# Altium footprint library MyLib.PcbLib: 4 footprints
Each footprint in its own frame and in the unit in brackets; x right, y up, seen from the top. Pads: shape width x height; smd on the part's side, far side on the other; paste and mask are expansions set on the pad; w line width, h text height; cw(c..) or ccw(c..) is an arc to the next point about the centre after c.
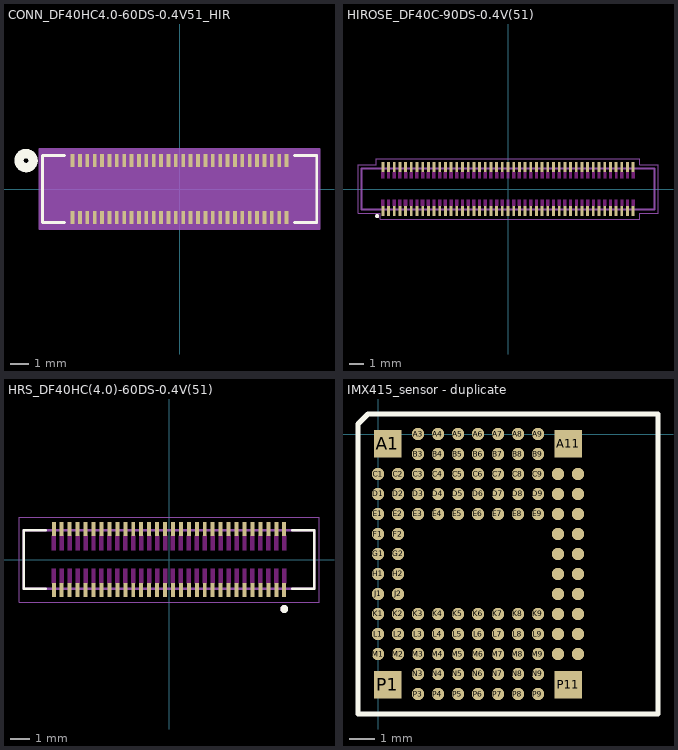
[diagram p0: the footprints below, top view; thin cyan lines are the x and y axes]

## CONN_DF40HC4.0-60DS-0.4V51_HIR [mm]
pads (60):
  rect 0.203x0.711 smd paste+0 mask+0: 1(-5.8,1.54) 2(-5.8,-1.54) 3(-5.4,1.54) 4(-5.4,-1.54) 5(-5,1.54) 6(-5,-1.54) 7(-4.6,1.54) 8(-4.6,-1.54) 9(-4.2,1.54) 10(-4.2,-1.54) 11(-3.8,1.54) 12(-3.8,-1.54) 13(-3.4,1.54) 14(-3.4,-1.54) 15(-3,1.54) 16(-3,-1.54) 17(-2.6,1.54) 18(-2.6,-1.54) 19(-2.2,1.54) 20(-2.2,-1.54) 21(-1.8,1.54) 22(-1.8,-1.54) 23(-1.4,1.54) 24(-1.4,-1.54) 25(-1,1.54) 26(-1,-1.54) 27(-0.6,1.54) 28(-0.6,-1.54) 29(-0.2,1.54) 30(-0.2,-1.54) 31(0.2,1.54) 32(0.2,-1.54) 33(0.6,1.54) 34(0.6,-1.54) 35(1,1.54) 36(1,-1.54) 37(1.4,1.54) 38(1.4,-1.54) 39(1.8,1.54) 40(1.8,-1.54) 41(2.2,1.54) 42(2.2,-1.54) 43(2.6,1.54) 44(2.6,-1.54) 45(3,1.54) 46(3,-1.54) 47(3.4,1.54) 48(3.4,-1.54) 49(3.8,1.54) 50(3.8,-1.54) 51(4.2,1.54) 52(4.2,-1.54) 53(4.6,1.54) 54(4.6,-1.54) 55(5,1.54) 56(5,-1.54) 57(5.4,1.54) 58(5.4,-1.54) 59(5.8,1.54) 60(5.8,-1.54)
Top Overlay:
  circle w0.508: c-8.319,1.54 r0.381
  lines w0.152: -6.234,-1.816 -7.429,-1.816 -7.429,1.816 -6.234,1.816 ; 6.234,-1.816 7.429,-1.816 7.429,1.816 6.234,1.816
  text ".Designator" at -3.492,-0.635 h1.27
Bottom Overlay:
  circle w0.508: c-8.319,1.54 r0.381
Mechanical 13:
  circle w0.508: c-5.8,1.54 r0.381
  lines w0.025: -7.302,-1.689 7.302,-1.689 7.302,1.689 -7.302,1.689 -7.302,-1.689
  text ".Designator" at -3.492,-0.635 h1.27
Mechanical 15:
  region: 7.556,2.15 -7.556,2.15 -7.556,-2.15 7.556,-2.15
  lines w0.152: -7.556,-2.15 -7.556,2.15 7.556,2.15 7.556,-2.15 -7.556,-2.15

## HIROSE_DF40C-90DS-0.4V(51) [mm]
pads (90):
  rect 0.2x0.7 smd paste+0 mask+0.102: 1(-8.8,-1.54) 2(-8.8,1.54) 3(-8.4,-1.54) 4(-8.4,1.54) 5(-8,-1.54) 6(-8,1.54) 7(-7.6,-1.54) 8(-7.6,1.54) 9(-7.2,-1.54) 10(-7.2,1.54) 11(-6.8,-1.54) 12(-6.8,1.54) 13(-6.4,-1.54) 14(-6.4,1.54) 15(-6,-1.54) 16(-6,1.54) 17(-5.6,-1.54) 18(-5.6,1.54) 19(-5.2,-1.54) 20(-5.2,1.54) 21(-4.8,-1.54) 22(-4.8,1.54) 23(-4.4,-1.54) 24(-4.4,1.54) 25(-4,-1.54) 26(-4,1.54) 27(-3.6,-1.54) 28(-3.6,1.54) 29(-3.2,-1.54) 30(-3.2,1.54) 31(-2.8,-1.54) 32(-2.8,1.54) 33(-2.4,-1.54) 34(-2.4,1.54) 35(-2,-1.54) 36(-2,1.54) 37(-1.6,-1.54) 38(-1.6,1.54) 39(-1.2,-1.54) 40(-1.2,1.54) 41(-0.8,-1.54) 42(-0.8,1.54) 43(-0.4,-1.54) 44(-0.4,1.54) 45(0,-1.54) 46(0,1.54) 47(0.4,-1.54) 48(0.4,1.54) 49(0.8,-1.54) 50(0.8,1.54) 51(1.2,-1.54) 52(1.2,1.54) 53(1.6,-1.54) 54(1.6,1.54) 55(2,-1.54) 56(2,1.54) 57(2.4,-1.54) 58(2.4,1.54) 59(2.8,-1.54) 60(2.8,1.54) 61(3.2,-1.54) 62(3.2,1.54) 63(3.6,-1.54) 64(3.6,1.54) 65(4,-1.54) 66(4,1.54) 67(4.4,-1.54) 68(4.4,1.54) 69(4.8,-1.54) 70(4.8,1.54) 71(5.2,-1.54) 72(5.2,1.54) 73(5.6,-1.54) 74(5.6,1.54) 75(6,-1.54) 76(6,1.54) 77(6.4,-1.54) 78(6.4,1.54) 79(6.8,-1.54) 80(6.8,1.54) 81(7.2,-1.54) 82(7.2,1.54) 83(7.6,-1.54) 84(7.6,1.54) 85(8,-1.54) 86(8,1.54) 87(8.4,-1.54) 88(8.4,1.54) 89(8.8,-1.54) 90(8.8,1.54)
Top Overlay:
  circle w0.14: c-9.2,-1.9 r0.07
Keep-Out Layer:
  drawing of 90 lines, arcs and shapes, not listed
Mechanical 13:
  circle w0.14: c-9.2,-1.9 r0.07
  lines w0.127: -10.3,-1.44 10.3,-1.44 10.3,1.44 -10.3,1.44 -10.3,-1.44
Mechanical 15:
  lines w0.05: -10.55,-1.69 -10.55,1.69 -9.25,1.69 -9.25,2.14 9.25,2.14 9.25,1.69 10.55,1.69 10.55,-1.69 9.25,-1.69 9.25,-2.14 -9,-2.14 -9,-1.69 -10.55,-1.69
3D body "step_temp.STEP": height 1.4, standoff -0.05, extent -10.3,-1.54 10.3,1.84

## HRS_DF40HC(4.0)-60DS-0.4V(51) [mm]
height 4.05
pads (60):
  rect 0.2x0.7 smd paste-1 mask+0.05: 1(5.8,-1.54) 2(5.8,1.54) 3(5.4,-1.54) 4(5.4,1.54) 5(5,-1.54) 6(5,1.54) 7(4.6,-1.54) 8(4.6,1.54) 9(4.2,-1.54) 10(4.2,1.54) 11(3.8,-1.54) 12(3.8,1.54) 13(3.4,-1.54) 14(3.4,1.54) 15(3,-1.54) 16(3,1.54) 17(2.6,-1.54) 18(2.6,1.54) 19(2.2,-1.54) 20(2.2,1.54) 21(1.8,-1.54) 22(1.8,1.54) 23(1.4,-1.54) 24(1.4,1.54) 25(1,-1.54) 26(1,1.54) 27(0.6,-1.54) 28(0.6,1.54) 29(0.2,-1.54) 30(0.2,1.54) 31(-0.2,-1.54) 32(-0.2,1.54) 33(-0.6,-1.54) 34(-0.6,1.54) 35(-1,-1.54) 36(-1,1.54) 37(-1.4,-1.54) 38(-1.4,1.54) 39(-1.8,-1.54) 40(-1.8,1.54) 41(-2.2,-1.54) 42(-2.2,1.54) 43(-2.6,-1.54) 44(-2.6,1.54) 45(-3,-1.54) 46(-3,1.54) 47(-3.4,-1.54) 48(-3.4,1.54) 49(-3.8,-1.54) 50(-3.8,1.54) 51(-4.2,-1.54) 52(-4.2,1.54) 53(-4.6,-1.54) 54(-4.6,1.54) 55(-5,-1.54) 56(-5,1.54) 57(-5.4,-1.54) 58(-5.4,1.54) 59(-5.8,-1.54) 60(-5.8,1.54)
Top Overlay:
  circle w0.2: c5.8,-2.49 r0.1
  lines w0.127: -6.215,-1.47 -7.3,-1.47 -7.3,1.47 -6.215,1.47 ; 6.215,-1.47 7.3,-1.47 7.3,1.47 6.215,1.47
Top Paste:
  drawing of 60 lines, arcs and shapes, not listed
Keep-Out Layer:
  drawing of 60 lines, arcs and shapes, not listed
Mechanical 13:
  circle w0.2: c5.8,-2.49 r0.1
  lines w0.127: -7.3,-1.47 7.3,-1.47 7.3,1.47 -7.3,1.47 -7.3,-1.47
Mechanical 15:
  lines w0.05: -7.55,-2.14 -7.55,2.14 7.55,2.14 7.55,-2.14 -7.55,-2.14
3D body "step_temp.STEP": height 1.4, standoff -2.5, extent -7.1,-1.54 7.5,1.84

## IMX415_sensor - duplicate [mm]
pads (114):
  rect 1.1x1.1 smd: A1(0.381,-0.381) A11(7.62,-0.381) P1(0.381,-10.033) P11(7.62,-10.033)
  round 0.5 smd: A3(1.6,0) A4(2.4,0) A5(3.2,0) A6(4,0) A7(4.8,0) A8(5.6,0) A9(6.4,0) B3(1.6,-0.8) B4(2.4,-0.8) B5(3.2,-0.8) B6(4,-0.8) B7(4.8,-0.8) B8(5.6,-0.8) B9(6.4,-0.8) C1(0,-1.6) C2(0.8,-1.6) C3(1.6,-1.6) C4(2.4,-1.6) C5(3.2,-1.6) C6(4,-1.6) C7(4.8,-1.6) C8(5.6,-1.6) C9(6.4,-1.6) C10(7.2,-1.6) C11(8,-1.6) D1(0,-2.4) D2(0.8,-2.4) D3(1.6,-2.4) D4(2.4,-2.4) D5(3.2,-2.4) D6(4,-2.4) D7(4.8,-2.4) D8(5.6,-2.4) D9(6.4,-2.4) D10(7.2,-2.4) D11(8,-2.4) E1(0,-3.2) E2(0.8,-3.2) E3(1.6,-3.2) E4(2.4,-3.2) E5(3.2,-3.2) E6(4,-3.2) E7(4.8,-3.2) E8(5.6,-3.2) E9(6.4,-3.2) E10(7.2,-3.2) E11(8,-3.2) F1(0,-4) F2(0.8,-4) F10(7.2,-4) F11(8,-4) G1(0,-4.8) G2(0.8,-4.8) G10(7.2,-4.8) G11(8,-4.8) H1(0,-5.6) H2(0.8,-5.6) H10(7.2,-5.6) H11(8,-5.6) J1(0,-6.4) J2(0.8,-6.4) J10(7.2,-6.4) J11(8,-6.4) K1(0,-7.2) K2(0.8,-7.2) K3(1.6,-7.2) K4(2.4,-7.2) K5(3.2,-7.2) K6(4,-7.2) K7(4.8,-7.2) K8(5.6,-7.2) K9(6.4,-7.2) K10(7.2,-7.2) K11(8,-7.2) L1(0,-8) L2(0.8,-8) L3(1.6,-8) L4(2.4,-8) L5(3.2,-8) L6(4,-8) L7(4.8,-8) L8(5.6,-8) L9(6.4,-8) L10(7.2,-8) L11(8,-8) M1(0,-8.8) M2(0.8,-8.8) M3(1.6,-8.8) M4(2.4,-8.8) M5(3.2,-8.8) M6(4,-8.8) M7(4.8,-8.8) M8(5.6,-8.8) M9(6.4,-8.8) M10(7.2,-8.8) M11(8,-8.8) N3(1.6,-9.6) N4(2.4,-9.6) N5(3.2,-9.6) N6(4,-9.6) N7(4.8,-9.6) N8(5.6,-9.6) N9(6.4,-9.6) P3(1.6,-10.4) P4(2.4,-10.4) P5(3.2,-10.4) P6(4,-10.4) P7(4.8,-10.4) P8(5.6,-10.4) P9(6.4,-10.4)
Top Overlay:
  lines w0.2: -0.8,-11.2 11.2,-11.2 11.2,0.8 -0.4,0.8 -0.8,0.4 -0.8,-11.2